# Altium schematic symbol library kmilo17pet-LT_OpAmp_LT1000.SchLib: 2280 symbols (part 44 of 79)
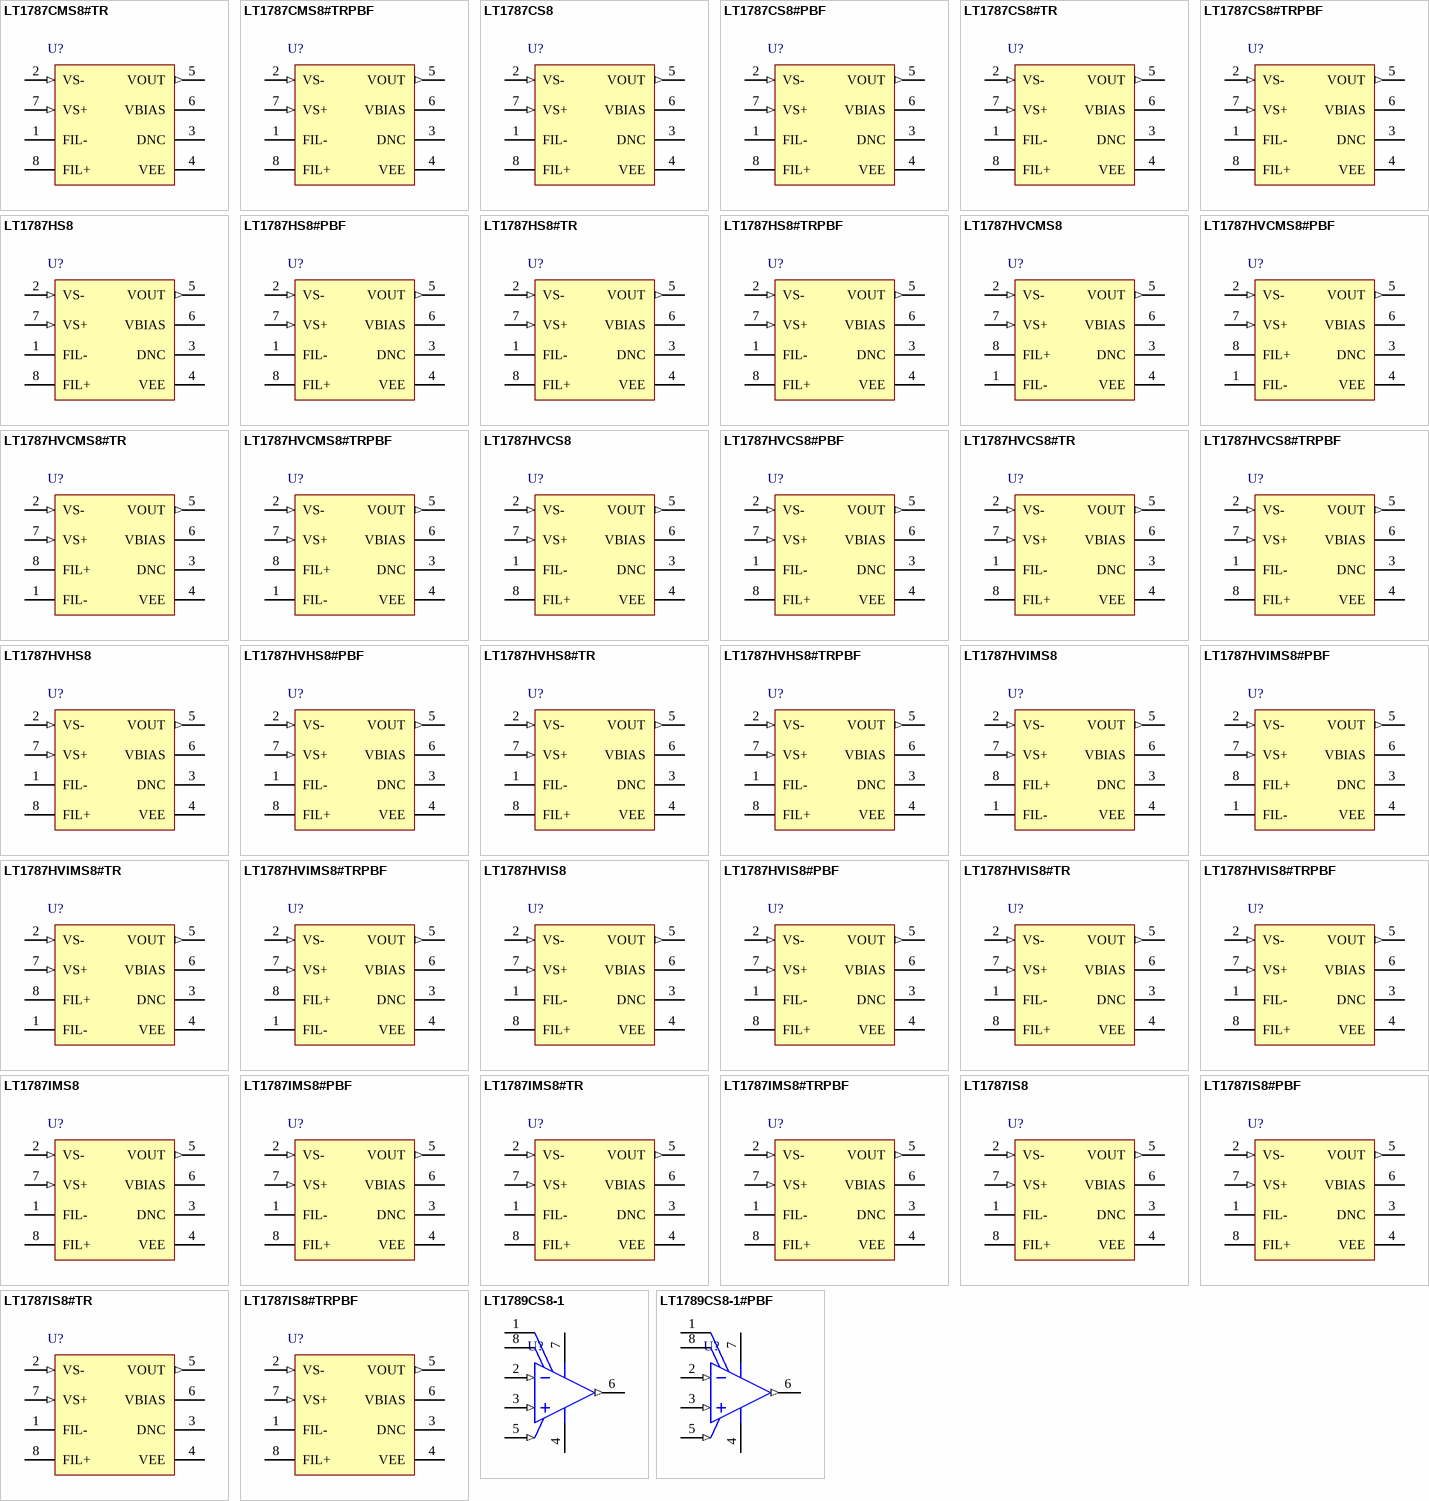
[diagram p148: symbols LT1787CMS8#TR to LT1789CS8-1#PBF]

## LT1787HVCMS8
designator U?
Single Channel, High Side Current Sense, 60 V Supply Operation, Precision Operational Amplifier, 0.115 MHz Typical GBW, 2.5 to 60 V, 8-Pin SOP (MS8-8), Commercial; Linear Technology Part Number: LT1787HV; Manufacturer: Linear Technology; PartNumber: LT1787HVCMS8; Channels (#): 1; GBW (MHz) Typical: 0.115; Is (mA) Typical: 0.06; Vos (mV) Guaranteed: 0.075; Vos (mV) Typical: 0.04; Vs Max (V): 60; Vs Min (V): 2.5; DatasheetVersion: Rev. C; PackageVersion: Rev G; PackageReference: LT-MS8-8; PackageDescription: 8-Lead Plastic Small Outline, Body 3.9 x 4.9 mm, Pitch 1.27 mm; Supplier 1: Digi-Key; Supplier Part Number 1: LT1787HVCMS8-ND; Type: CSA; Mounting Technology: Surface Mount; ComponentLink1Description: Manufacturer URL; ComponentLink1URL: http://www.linear.com/; ComponentLink2Description: Datasheet; ComponentLink2URL: http://cds.linear.com/docs/en/datasheet/1787fc.pdf; ComponentLink3Description: Package Specification; ComponentLink3URL: http://cds.linear.com/docs/en/packaging/05081610_G_SO8.pdf
footprint LT-MS8-8_N (SOP, 8-Leads, Body 3x3mm, Pitch 0.65mm, IPC Medium Density)
footprint LT-MS8-8_L (SOP, 8-Leads, Body 3x3mm, Pitch 0.65mm, IPC High Density)
footprint LT-MS8-8_M (SOP, 8-Leads, Body 3x3mm, Pitch 0.65mm, IPC Low Density)
pins: 1 FIL- "Negative and Positive Filter Terminals. Differential mode noise can be filtered by connecting a capacitor across FIL- and FIL+. Pole frequency f_3dB = 1/(2pRC), R = 1.25k ohm.", 2 VS- (in) "Negative Input Sense Terminal. Negative sense voltage will result in an output sinking current proportional to the sense current. VS- is connected to an internal gain-setting resistor RG1A and supplies bias current to the (See Datasheet)", 3 DNC "Do Not Connect. Connected internally. Do not connect external circuitry to this pin.", 4 VEE (power) "Negative Supply or Ground for Single Supply Operation.", 5 VOUT (out) "Voltage Output or Current Output proportional to the magnitude of the sense current flowing through RSENSE. For bidirectional current sensing operation, VOUT = AV * VSENSE + VOUT(O) + VBIAS,where: VOUT > VBIAS for VS + > VS- (See Datasheet)", 6 VBIAS "Output Bias Pin. For single supply, bidirectional current sensing operation, VBIAS is connected to an external bias voltage, so that at VSENSE = 0V, VOUT = VOUT(O) + VBIAS. For dual supply, bidirectional current sensing (See Datasheet)", 7 VS+ (in) "Positive Input Sense Terminal. Positive sense voltage will result in an output sourcing current proportional to the sense current. VS + is connected to an internal gain-setting resistor RG2A. Connecting a supply to VS + and (See Datasheet)", 8 FIL+ "Negative and Positive Filter Terminals. Differential mode noise can be filtered by connecting a capacitor across FIL- and FIL+. Pole frequency f_3dB = 1/(2pRC), R = 1.25k ohm."

## LT1787HVCMS8#PBF
designator U?
Single Channel, High Side Current Sense, 60 V Supply Operation, Precision Operational Amplifier, 0.115 MHz Typical GBW, 2.5 to 60 V, 8-Pin SOP (MS8-8), Commercial, Pb-Free; Linear Technology Part Number: LT1787HV; Manufacturer: Linear Technology; PartNumber: LT1787HVCMS8#PBF; Channels (#): 1; GBW (MHz) Typical: 0.115; Is (mA) Typical: 0.06; Vos (mV) Guaranteed: 0.075; Vos (mV) Typical: 0.04; Vs Max (V): 60; Vs Min (V): 2.5; DatasheetVersion: Rev. C; PackageVersion: Rev G; PackageReference: LT-MS8-8; PackageDescription: 8-Lead Plastic Small Outline, Body 3.9 x 4.9 mm, Pitch 1.27 mm; Supplier 1: Digi-Key; Supplier Part Number 1: LT1787HVCMS8#PBF-ND; Supplier 2: Farnell; Supplier Part Number 2: 1330697; Supplier 3: Newark; Supplier Part Number 3: 57M6443; RoHS: Pb-Free; Type: CSA; Mounting Technology: Surface Mount; ComponentLink1Description: Manufacturer URL; ComponentLink1URL: http://www.linear.com/; ComponentLink2Description: Datasheet; ComponentLink2URL: http://cds.linear.com/docs/en/datasheet/1787fc.pdf; ComponentLink3Description: Package Specification; ComponentLink3URL: http://cds.linear.com/docs/en/packaging/05081610_G_SO8.pdf
footprint LT-MS8-8_N (SOP, 8-Leads, Body 3x3mm, Pitch 0.65mm, IPC Medium Density)
footprint LT-MS8-8_L (SOP, 8-Leads, Body 3x3mm, Pitch 0.65mm, IPC High Density)
footprint LT-MS8-8_M (SOP, 8-Leads, Body 3x3mm, Pitch 0.65mm, IPC Low Density)
pins: 1 FIL- "Negative and Positive Filter Terminals. Differential mode noise can be filtered by connecting a capacitor across FIL- and FIL+. Pole frequency f_3dB = 1/(2pRC), R = 1.25k ohm.", 2 VS- (in) "Negative Input Sense Terminal. Negative sense voltage will result in an output sinking current proportional to the sense current. VS- is connected to an internal gain-setting resistor RG1A and supplies bias current to the (See Datasheet)", 3 DNC "Do Not Connect. Connected internally. Do not connect external circuitry to this pin.", 4 VEE (power) "Negative Supply or Ground for Single Supply Operation.", 5 VOUT (out) "Voltage Output or Current Output proportional to the magnitude of the sense current flowing through RSENSE. For bidirectional current sensing operation, VOUT = AV * VSENSE + VOUT(O) + VBIAS,where: VOUT > VBIAS for VS + > VS- (See Datasheet)", 6 VBIAS "Output Bias Pin. For single supply, bidirectional current sensing operation, VBIAS is connected to an external bias voltage, so that at VSENSE = 0V, VOUT = VOUT(O) + VBIAS. For dual supply, bidirectional current sensing (See Datasheet)", 7 VS+ (in) "Positive Input Sense Terminal. Positive sense voltage will result in an output sourcing current proportional to the sense current. VS + is connected to an internal gain-setting resistor RG2A. Connecting a supply to VS + and (See Datasheet)", 8 FIL+ "Negative and Positive Filter Terminals. Differential mode noise can be filtered by connecting a capacitor across FIL- and FIL+. Pole frequency f_3dB = 1/(2pRC), R = 1.25k ohm."

## LT1787HVCMS8#TR
designator U?
Single Channel, High Side Current Sense, 60 V Supply Operation, Precision Operational Amplifier, 0.115 MHz Typical GBW, 2.5 to 60 V, 8-Pin SOP (MS8-8), Commercial, Reel; Linear Technology Part Number: LT1787HV; Manufacturer: Linear Technology; PartNumber: LT1787HVCMS8#TR; Channels (#): 1; GBW (MHz) Typical: 0.115; Is (mA) Typical: 0.06; Vos (mV) Guaranteed: 0.075; Vos (mV) Typical: 0.04; Vs Max (V): 60; Vs Min (V): 2.5; DatasheetVersion: Rev. C; PackageVersion: Rev G; PackageReference: LT-MS8-8; PackageDescription: 8-Lead Plastic Small Outline, Body 3.9 x 4.9 mm, Pitch 1.27 mm; Supplier 1: Digi-Key; Supplier Part Number 1: LT1787HVCMS8#TR-ND; Packing: Reel; Type: CSA; Mounting Technology: Surface Mount; ComponentLink1Description: Manufacturer URL; ComponentLink1URL: http://www.linear.com/; ComponentLink2Description: Datasheet; ComponentLink2URL: http://cds.linear.com/docs/en/datasheet/1787fc.pdf; ComponentLink3Description: Package Specification; ComponentLink3URL: http://cds.linear.com/docs/en/packaging/05081610_G_SO8.pdf
footprint LT-MS8-8_N (SOP, 8-Leads, Body 3x3mm, Pitch 0.65mm, IPC Medium Density)
footprint LT-MS8-8_L (SOP, 8-Leads, Body 3x3mm, Pitch 0.65mm, IPC High Density)
footprint LT-MS8-8_M (SOP, 8-Leads, Body 3x3mm, Pitch 0.65mm, IPC Low Density)
pins: 1 FIL- "Negative and Positive Filter Terminals. Differential mode noise can be filtered by connecting a capacitor across FIL- and FIL+. Pole frequency f_3dB = 1/(2pRC), R = 1.25k ohm.", 2 VS- (in) "Negative Input Sense Terminal. Negative sense voltage will result in an output sinking current proportional to the sense current. VS- is connected to an internal gain-setting resistor RG1A and supplies bias current to the (See Datasheet)", 3 DNC "Do Not Connect. Connected internally. Do not connect external circuitry to this pin.", 4 VEE (power) "Negative Supply or Ground for Single Supply Operation.", 5 VOUT (out) "Voltage Output or Current Output proportional to the magnitude of the sense current flowing through RSENSE. For bidirectional current sensing operation, VOUT = AV * VSENSE + VOUT(O) + VBIAS,where: VOUT > VBIAS for VS + > VS- (See Datasheet)", 6 VBIAS "Output Bias Pin. For single supply, bidirectional current sensing operation, VBIAS is connected to an external bias voltage, so that at VSENSE = 0V, VOUT = VOUT(O) + VBIAS. For dual supply, bidirectional current sensing (See Datasheet)", 7 VS+ (in) "Positive Input Sense Terminal. Positive sense voltage will result in an output sourcing current proportional to the sense current. VS + is connected to an internal gain-setting resistor RG2A. Connecting a supply to VS + and (See Datasheet)", 8 FIL+ "Negative and Positive Filter Terminals. Differential mode noise can be filtered by connecting a capacitor across FIL- and FIL+. Pole frequency f_3dB = 1/(2pRC), R = 1.25k ohm."

## LT1787HVCMS8#TRPBF
designator U?
Single Channel, High Side Current Sense, 60 V Supply Operation, Precision Operational Amplifier, 0.115 MHz Typical GBW, 2.5 to 60 V, 8-Pin SOP (MS8-8), Commercial, Pb-Free, Reel; Linear Technology Part Number: LT1787HV; Manufacturer: Linear Technology; PartNumber: LT1787HVCMS8#TRPBF; Channels (#): 1; GBW (MHz) Typical: 0.115; Is (mA) Typical: 0.06; Vos (mV) Guaranteed: 0.075; Vos (mV) Typical: 0.04; Vs Max (V): 60; Vs Min (V): 2.5; DatasheetVersion: Rev. C; PackageVersion: Rev G; PackageReference: LT-MS8-8; PackageDescription: 8-Lead Plastic Small Outline, Body 3.9 x 4.9 mm, Pitch 1.27 mm; Supplier 1: Digi-Key; Supplier Part Number 1: LT1787HVCMS8#TRPBF-ND; Packing: Reel; RoHS: Pb-Free; Type: CSA; Mounting Technology: Surface Mount; ComponentLink1Description: Manufacturer URL; ComponentLink1URL: http://www.linear.com/; ComponentLink2Description: Datasheet; ComponentLink2URL: http://cds.linear.com/docs/en/datasheet/1787fc.pdf; ComponentLink3Description: Package Specification; ComponentLink3URL: http://cds.linear.com/docs/en/packaging/05081610_G_SO8.pdf
footprint LT-MS8-8_N (SOP, 8-Leads, Body 3x3mm, Pitch 0.65mm, IPC Medium Density)
footprint LT-MS8-8_L (SOP, 8-Leads, Body 3x3mm, Pitch 0.65mm, IPC High Density)
footprint LT-MS8-8_M (SOP, 8-Leads, Body 3x3mm, Pitch 0.65mm, IPC Low Density)
pins: 1 FIL- "Negative and Positive Filter Terminals. Differential mode noise can be filtered by connecting a capacitor across FIL- and FIL+. Pole frequency f_3dB = 1/(2pRC), R = 1.25k ohm.", 2 VS- (in) "Negative Input Sense Terminal. Negative sense voltage will result in an output sinking current proportional to the sense current. VS- is connected to an internal gain-setting resistor RG1A and supplies bias current to the (See Datasheet)", 3 DNC "Do Not Connect. Connected internally. Do not connect external circuitry to this pin.", 4 VEE (power) "Negative Supply or Ground for Single Supply Operation.", 5 VOUT (out) "Voltage Output or Current Output proportional to the magnitude of the sense current flowing through RSENSE. For bidirectional current sensing operation, VOUT = AV * VSENSE + VOUT(O) + VBIAS,where: VOUT > VBIAS for VS + > VS- (See Datasheet)", 6 VBIAS "Output Bias Pin. For single supply, bidirectional current sensing operation, VBIAS is connected to an external bias voltage, so that at VSENSE = 0V, VOUT = VOUT(O) + VBIAS. For dual supply, bidirectional current sensing (See Datasheet)", 7 VS+ (in) "Positive Input Sense Terminal. Positive sense voltage will result in an output sourcing current proportional to the sense current. VS + is connected to an internal gain-setting resistor RG2A. Connecting a supply to VS + and (See Datasheet)", 8 FIL+ "Negative and Positive Filter Terminals. Differential mode noise can be filtered by connecting a capacitor across FIL- and FIL+. Pole frequency f_3dB = 1/(2pRC), R = 1.25k ohm."

## LT1787HVCS8
designator U?
Single Channel, High Side Current Sense, 60 V Supply Operation, Precision Operational Amplifier, 0.115 MHz Typical GBW, 2.5 to 60 V, 8-Pin SOIC (S8-8), Commercial; Linear Technology Part Number: LT1787HV; Manufacturer: Linear Technology; PartNumber: LT1787HVCS8; Channels (#): 1; GBW (MHz) Typical: 0.115; Is (mA) Typical: 0.06; Vos (mV) Guaranteed: 0.075; Vos (mV) Typical: 0.04; Vs Max (V): 60; Vs Min (V): 2.5; DatasheetVersion: Rev. C; PackageVersion: Rev G; PackageReference: LT-S8-8; PackageDescription: 8-Pin Plastic Small Outline, Body 4.9 x 3.9 mm, Pitch 1.27 mm; Supplier 1: Digi-Key; Supplier Part Number 1: LT1787HVCS8-ND; Supplier 2: Newark; Supplier Part Number 2: 57M6446; Type: CSA; Mounting Technology: Surface Mount; ComponentLink1Description: Manufacturer URL; ComponentLink1URL: http://www.linear.com/; ComponentLink2Description: Datasheet; ComponentLink2URL: http://cds.linear.com/docs/en/datasheet/1787fc.pdf; ComponentLink3Description: Package Specification; ComponentLink3URL: http://cds.linear.com/docs/en/packaging/05081610_G_SO8.pdf
footprint LT-S8-8_N (SOIC, 8-Leads, Body 4.9x3.9mm, Pitch 1.27mm, IPC Medium Density)
footprint LT-S8-8_L (SOIC, 8-Leads, Body 4.9x3.9mm, Pitch 1.27mm, IPC High Density)
footprint LT-S8-8_M (SOIC, 8-Leads, Body 4.9x3.9mm, Pitch 1.27mm, IPC Low Density)
pins: 1 FIL- "Negative and Positive Filter Terminal. Differential mode noise can be filtered by connecting a capacitor across FIL- and FIL+. Pole frequency f-3dB = 1/(2pRC), R = 1.25k ohm.", 2 VS- (in) "Negative Input Sense Terminal. Negative sense voltage will result in an output sinking current proportional to the sense current. VS- is connected to an internal gain-setting resistor RG1A and supplies bias current to the (See Datasheet)", 3 DNC "Do Not Connect. Connected internally. Do not connect external circuitry to this pin.", 4 VEE (power) "Negative Supply or Ground for Single Supply Operation.", 5 VOUT (out) "Voltage Output or Current Output proportional to the magnitude of the sense current flowing through RSENSE. For bidirectional current sensing operation, VOUT = AV • VSENSE + VOUT(O) + VBIAS,where: VOUT > VBIAS for VS + > VS (See Datasheet)", 6 VBIAS "Output Bias Pin. For single supply, bidirectional current sensing operation, VBIAS is connected to an external bias voltage, so that at VSENSE = 0V, VOUT = VOUT(O) + VBIAS. For dual supply, bidirectional current sensing (See Datasheet)", 7 VS+ (in) "Positive Input Sense Terminal. Positive sense voltage will result in an output sourcing current proportional to the sense current. VS + is connected to an internal gain-setting resistor RG2A. Connecting a supply to VS + and (See Datasheet)", 8 FIL+ "Negative and Positive Filter Terminal. Differential mode noise can be filtered by connecting a capacitor across FIL- and FIL+. Pole frequency f-3dB = 1/(2pRC), R = 1.25k ohm."

## LT1787HVCS8#PBF
designator U?
Single Channel, High Side Current Sense, 60 V Supply Operation, Precision Operational Amplifier, 0.115 MHz Typical GBW, 2.5 to 60 V, 8-Pin SOIC (S8-8), Commercial, Pb-Free; Linear Technology Part Number: LT1787HV; Manufacturer: Linear Technology; PartNumber: LT1787HVCS8#PBF; Channels (#): 1; GBW (MHz) Typical: 0.115; Is (mA) Typical: 0.06; Vos (mV) Guaranteed: 0.075; Vos (mV) Typical: 0.04; Vs Max (V): 60; Vs Min (V): 2.5; DatasheetVersion: Rev. C; PackageVersion: Rev G; PackageReference: LT-S8-8; PackageDescription: 8-Pin Plastic Small Outline, Body 4.9 x 3.9 mm, Pitch 1.27 mm; Supplier 1: Digi-Key; Supplier Part Number 1: LT1787HVCS8#PBF-ND; Supplier 2: Farnell; Supplier Part Number 2: 1663502; Supplier 3: Newark; Supplier Part Number 3: 57M6447; RoHS: Pb-Free; Type: CSA; Mounting Technology: Surface Mount; ComponentLink1Description: Manufacturer URL; ComponentLink1URL: http://www.linear.com/; ComponentLink2Description: Datasheet; ComponentLink2URL: http://cds.linear.com/docs/en/datasheet/1787fc.pdf; ComponentLink3Description: Package Specification; ComponentLink3URL: http://cds.linear.com/docs/en/packaging/05081610_G_SO8.pdf
footprint LT-S8-8_N (SOIC, 8-Leads, Body 4.9x3.9mm, Pitch 1.27mm, IPC Medium Density)
footprint LT-S8-8_L (SOIC, 8-Leads, Body 4.9x3.9mm, Pitch 1.27mm, IPC High Density)
footprint LT-S8-8_M (SOIC, 8-Leads, Body 4.9x3.9mm, Pitch 1.27mm, IPC Low Density)
pins: 1 FIL- "Negative and Positive Filter Terminal. Differential mode noise can be filtered by connecting a capacitor across FIL- and FIL+. Pole frequency f-3dB = 1/(2pRC), R = 1.25k ohm.", 2 VS- (in) "Negative Input Sense Terminal. Negative sense voltage will result in an output sinking current proportional to the sense current. VS- is connected to an internal gain-setting resistor RG1A and supplies bias current to the (See Datasheet)", 3 DNC "Do Not Connect. Connected internally. Do not connect external circuitry to this pin.", 4 VEE (power) "Negative Supply or Ground for Single Supply Operation.", 5 VOUT (out) "Voltage Output or Current Output proportional to the magnitude of the sense current flowing through RSENSE. For bidirectional current sensing operation, VOUT = AV • VSENSE + VOUT(O) + VBIAS,where: VOUT > VBIAS for VS + > VS (See Datasheet)", 6 VBIAS "Output Bias Pin. For single supply, bidirectional current sensing operation, VBIAS is connected to an external bias voltage, so that at VSENSE = 0V, VOUT = VOUT(O) + VBIAS. For dual supply, bidirectional current sensing (See Datasheet)", 7 VS+ (in) "Positive Input Sense Terminal. Positive sense voltage will result in an output sourcing current proportional to the sense current. VS + is connected to an internal gain-setting resistor RG2A. Connecting a supply to VS + and (See Datasheet)", 8 FIL+ "Negative and Positive Filter Terminal. Differential mode noise can be filtered by connecting a capacitor across FIL- and FIL+. Pole frequency f-3dB = 1/(2pRC), R = 1.25k ohm."

## LT1787HVCS8#TR
designator U?
Single Channel, High Side Current Sense, 60 V Supply Operation, Precision Operational Amplifier, 0.115 MHz Typical GBW, 2.5 to 60 V, 8-Pin SOIC (S8-8), Commercial, Reel; Linear Technology Part Number: LT1787HV; Manufacturer: Linear Technology; PartNumber: LT1787HVCS8#TR; Channels (#): 1; GBW (MHz) Typical: 0.115; Is (mA) Typical: 0.06; Vos (mV) Guaranteed: 0.075; Vos (mV) Typical: 0.04; Vs Max (V): 60; Vs Min (V): 2.5; DatasheetVersion: Rev. C; PackageVersion: Rev G; PackageReference: LT-S8-8; PackageDescription: 8-Pin Plastic Small Outline, Body 4.9 x 3.9 mm, Pitch 1.27 mm; Supplier 1: Digi-Key; Supplier Part Number 1: LT1787HVCS8#TR-ND; Packing: Reel; Type: CSA; Mounting Technology: Surface Mount; ComponentLink1Description: Manufacturer URL; ComponentLink1URL: http://www.linear.com/; ComponentLink2Description: Datasheet; ComponentLink2URL: http://cds.linear.com/docs/en/datasheet/1787fc.pdf; ComponentLink3Description: Package Specification; ComponentLink3URL: http://cds.linear.com/docs/en/packaging/05081610_G_SO8.pdf
footprint LT-S8-8_N (SOIC, 8-Leads, Body 4.9x3.9mm, Pitch 1.27mm, IPC Medium Density)
footprint LT-S8-8_L (SOIC, 8-Leads, Body 4.9x3.9mm, Pitch 1.27mm, IPC High Density)
footprint LT-S8-8_M (SOIC, 8-Leads, Body 4.9x3.9mm, Pitch 1.27mm, IPC Low Density)
pins: 1 FIL- "Negative and Positive Filter Terminal. Differential mode noise can be filtered by connecting a capacitor across FIL- and FIL+. Pole frequency f-3dB = 1/(2pRC), R = 1.25k ohm.", 2 VS- (in) "Negative Input Sense Terminal. Negative sense voltage will result in an output sinking current proportional to the sense current. VS- is connected to an internal gain-setting resistor RG1A and supplies bias current to the (See Datasheet)", 3 DNC "Do Not Connect. Connected internally. Do not connect external circuitry to this pin.", 4 VEE (power) "Negative Supply or Ground for Single Supply Operation.", 5 VOUT (out) "Voltage Output or Current Output proportional to the magnitude of the sense current flowing through RSENSE. For bidirectional current sensing operation, VOUT = AV • VSENSE + VOUT(O) + VBIAS,where: VOUT > VBIAS for VS + > VS (See Datasheet)", 6 VBIAS "Output Bias Pin. For single supply, bidirectional current sensing operation, VBIAS is connected to an external bias voltage, so that at VSENSE = 0V, VOUT = VOUT(O) + VBIAS. For dual supply, bidirectional current sensing (See Datasheet)", 7 VS+ (in) "Positive Input Sense Terminal. Positive sense voltage will result in an output sourcing current proportional to the sense current. VS + is connected to an internal gain-setting resistor RG2A. Connecting a supply to VS + and (See Datasheet)", 8 FIL+ "Negative and Positive Filter Terminal. Differential mode noise can be filtered by connecting a capacitor across FIL- and FIL+. Pole frequency f-3dB = 1/(2pRC), R = 1.25k ohm."

## LT1787HVCS8#TRPBF
designator U?
Single Channel, High Side Current Sense, 60 V Supply Operation, Precision Operational Amplifier, 0.115 MHz Typical GBW, 2.5 to 60 V, 8-Pin SOIC (S8-8), Commercial, Pb-Free, Reel; Linear Technology Part Number: LT1787HV; Manufacturer: Linear Technology; PartNumber: LT1787HVCS8#TRPBF; Channels (#): 1; GBW (MHz) Typical: 0.115; Is (mA) Typical: 0.06; Vos (mV) Guaranteed: 0.075; Vos (mV) Typical: 0.04; Vs Max (V): 60; Vs Min (V): 2.5; DatasheetVersion: Rev. C; PackageVersion: Rev G; PackageReference: LT-S8-8; PackageDescription: 8-Pin Plastic Small Outline, Body 4.9 x 3.9 mm, Pitch 1.27 mm; Supplier 1: Digi-Key; Supplier Part Number 1: LT1787HVCS8#TRPBF-ND; Supplier 2: Newark; Supplier Part Number 2: 57M6449; Packing: Reel; RoHS: Pb-Free; Type: CSA; Mounting Technology: Surface Mount; ComponentLink1Description: Manufacturer URL; ComponentLink1URL: http://www.linear.com/; ComponentLink2Description: Datasheet; ComponentLink2URL: http://cds.linear.com/docs/en/datasheet/1787fc.pdf; ComponentLink3Description: Package Specification; ComponentLink3URL: http://cds.linear.com/docs/en/packaging/05081610_G_SO8.pdf
footprint LT-S8-8_N (SOIC, 8-Leads, Body 4.9x3.9mm, Pitch 1.27mm, IPC Medium Density)
footprint LT-S8-8_L (SOIC, 8-Leads, Body 4.9x3.9mm, Pitch 1.27mm, IPC High Density)
footprint LT-S8-8_M (SOIC, 8-Leads, Body 4.9x3.9mm, Pitch 1.27mm, IPC Low Density)
pins: 1 FIL- "Negative and Positive Filter Terminal. Differential mode noise can be filtered by connecting a capacitor across FIL- and FIL+. Pole frequency f-3dB = 1/(2pRC), R = 1.25k ohm.", 2 VS- (in) "Negative Input Sense Terminal. Negative sense voltage will result in an output sinking current proportional to the sense current. VS- is connected to an internal gain-setting resistor RG1A and supplies bias current to the (See Datasheet)", 3 DNC "Do Not Connect. Connected internally. Do not connect external circuitry to this pin.", 4 VEE (power) "Negative Supply or Ground for Single Supply Operation.", 5 VOUT (out) "Voltage Output or Current Output proportional to the magnitude of the sense current flowing through RSENSE. For bidirectional current sensing operation, VOUT = AV • VSENSE + VOUT(O) + VBIAS,where: VOUT > VBIAS for VS + > VS (See Datasheet)", 6 VBIAS "Output Bias Pin. For single supply, bidirectional current sensing operation, VBIAS is connected to an external bias voltage, so that at VSENSE = 0V, VOUT = VOUT(O) + VBIAS. For dual supply, bidirectional current sensing (See Datasheet)", 7 VS+ (in) "Positive Input Sense Terminal. Positive sense voltage will result in an output sourcing current proportional to the sense current. VS + is connected to an internal gain-setting resistor RG2A. Connecting a supply to VS + and (See Datasheet)", 8 FIL+ "Negative and Positive Filter Terminal. Differential mode noise can be filtered by connecting a capacitor across FIL- and FIL+. Pole frequency f-3dB = 1/(2pRC), R = 1.25k ohm."

## LT1787HVHS8
designator U?
Single Channel, High Side Current Sense, 60 V Supply Operation, Precision Operational Amplifier, 0.115 MHz Typical GBW, 2.5 to 60 V, 8-Pin SOIC (S8-8), High Temperature / Automotive; Linear Technology Part Number: LT1787HV; Manufacturer: Linear Technology; PartNumber: LT1787HVHS8; Channels (#): 1; GBW (MHz) Typical: 0.115; Is (mA) Typical: 0.06; Vos (mV) Guaranteed: 0.075; Vos (mV) Typical: 0.04; Vs Max (V): 60; Vs Min (V): 2.5; DatasheetVersion: Rev. C; PackageVersion: Rev G; PackageReference: LT-S8-8; PackageDescription: 8-Pin Plastic Small Outline, Body 4.9 x 3.9 mm, Pitch 1.27 mm; Supplier 1: Digi-Key; Supplier Part Number 1: LT1787HVHS8-ND; Type: CSA; Mounting Technology: Surface Mount; ComponentLink1Description: Manufacturer URL; ComponentLink1URL: http://www.linear.com/; ComponentLink2Description: Datasheet; ComponentLink2URL: http://cds.linear.com/docs/en/datasheet/1787fc.pdf; ComponentLink3Description: Package Specification; ComponentLink3URL: http://cds.linear.com/docs/en/packaging/05081610_G_SO8.pdf
footprint LT-S8-8_N (SOIC, 8-Leads, Body 4.9x3.9mm, Pitch 1.27mm, IPC Medium Density)
footprint LT-S8-8_L (SOIC, 8-Leads, Body 4.9x3.9mm, Pitch 1.27mm, IPC High Density)
footprint LT-S8-8_M (SOIC, 8-Leads, Body 4.9x3.9mm, Pitch 1.27mm, IPC Low Density)
pins: 1 FIL- "Negative and Positive Filter Terminal. Differential mode noise can be filtered by connecting a capacitor across FIL- and FIL+. Pole frequency f-3dB = 1/(2pRC), R = 1.25k ohm.", 2 VS- (in) "Negative Input Sense Terminal. Negative sense voltage will result in an output sinking current proportional to the sense current. VS- is connected to an internal gain-setting resistor RG1A and supplies bias current to the (See Datasheet)", 3 DNC "Do Not Connect. Connected internally. Do not connect external circuitry to this pin.", 4 VEE (power) "Negative Supply or Ground for Single Supply Operation.", 5 VOUT (out) "Voltage Output or Current Output proportional to the magnitude of the sense current flowing through RSENSE. For bidirectional current sensing operation, VOUT = AV • VSENSE + VOUT(O) + VBIAS,where: VOUT > VBIAS for VS + > VS (See Datasheet)", 6 VBIAS "Output Bias Pin. For single supply, bidirectional current sensing operation, VBIAS is connected to an external bias voltage, so that at VSENSE = 0V, VOUT = VOUT(O) + VBIAS. For dual supply, bidirectional current sensing (See Datasheet)", 7 VS+ (in) "Positive Input Sense Terminal. Positive sense voltage will result in an output sourcing current proportional to the sense current. VS + is connected to an internal gain-setting resistor RG2A. Connecting a supply to VS + and (See Datasheet)", 8 FIL+ "Negative and Positive Filter Terminal. Differential mode noise can be filtered by connecting a capacitor across FIL- and FIL+. Pole frequency f-3dB = 1/(2pRC), R = 1.25k ohm."

## LT1787HVHS8#PBF
designator U?
Single Channel, High Side Current Sense, 60 V Supply Operation, Precision Operational Amplifier, 0.115 MHz Typical GBW, 2.5 to 60 V, 8-Pin SOIC (S8-8), High Temperature / Automotive, Pb-Free; Linear Technology Part Number: LT1787HV; Manufacturer: Linear Technology; PartNumber: LT1787HVHS8#PBF; Channels (#): 1; GBW (MHz) Typical: 0.115; Is (mA) Typical: 0.06; Vos (mV) Guaranteed: 0.075; Vos (mV) Typical: 0.04; Vs Max (V): 60; Vs Min (V): 2.5; DatasheetVersion: Rev. C; PackageVersion: Rev G; PackageReference: LT-S8-8; PackageDescription: 8-Pin Plastic Small Outline, Body 4.9 x 3.9 mm, Pitch 1.27 mm; Supplier 1: Digi-Key; Supplier Part Number 1: LT1787HVHS8#PBF-ND; Supplier 2: Newark; Supplier Part Number 2: 57M6451; RoHS: Pb-Free; Type: CSA; Mounting Technology: Surface Mount; ComponentLink1Description: Manufacturer URL; ComponentLink1URL: http://www.linear.com/; ComponentLink2Description: Datasheet; ComponentLink2URL: http://cds.linear.com/docs/en/datasheet/1787fc.pdf; ComponentLink3Description: Package Specification; ComponentLink3URL: http://cds.linear.com/docs/en/packaging/05081610_G_SO8.pdf
footprint LT-S8-8_N (SOIC, 8-Leads, Body 4.9x3.9mm, Pitch 1.27mm, IPC Medium Density)
footprint LT-S8-8_L (SOIC, 8-Leads, Body 4.9x3.9mm, Pitch 1.27mm, IPC High Density)
footprint LT-S8-8_M (SOIC, 8-Leads, Body 4.9x3.9mm, Pitch 1.27mm, IPC Low Density)
pins: 1 FIL- "Negative and Positive Filter Terminal. Differential mode noise can be filtered by connecting a capacitor across FIL- and FIL+. Pole frequency f-3dB = 1/(2pRC), R = 1.25k ohm.", 2 VS- (in) "Negative Input Sense Terminal. Negative sense voltage will result in an output sinking current proportional to the sense current. VS- is connected to an internal gain-setting resistor RG1A and supplies bias current to the (See Datasheet)", 3 DNC "Do Not Connect. Connected internally. Do not connect external circuitry to this pin.", 4 VEE (power) "Negative Supply or Ground for Single Supply Operation.", 5 VOUT (out) "Voltage Output or Current Output proportional to the magnitude of the sense current flowing through RSENSE. For bidirectional current sensing operation, VOUT = AV • VSENSE + VOUT(O) + VBIAS,where: VOUT > VBIAS for VS + > VS (See Datasheet)", 6 VBIAS "Output Bias Pin. For single supply, bidirectional current sensing operation, VBIAS is connected to an external bias voltage, so that at VSENSE = 0V, VOUT = VOUT(O) + VBIAS. For dual supply, bidirectional current sensing (See Datasheet)", 7 VS+ (in) "Positive Input Sense Terminal. Positive sense voltage will result in an output sourcing current proportional to the sense current. VS + is connected to an internal gain-setting resistor RG2A. Connecting a supply to VS + and (See Datasheet)", 8 FIL+ "Negative and Positive Filter Terminal. Differential mode noise can be filtered by connecting a capacitor across FIL- and FIL+. Pole frequency f-3dB = 1/(2pRC), R = 1.25k ohm."

## LT1787HVHS8#TR
designator U?
Single Channel, High Side Current Sense, 60 V Supply Operation, Precision Operational Amplifier, 0.115 MHz Typical GBW, 2.5 to 60 V, 8-Pin SOIC (S8-8), High Temperature / Automotive, Reel; Linear Technology Part Number: LT1787HV; Manufacturer: Linear Technology; PartNumber: LT1787HVHS8#TR; Channels (#): 1; GBW (MHz) Typical: 0.115; Is (mA) Typical: 0.06; Vos (mV) Guaranteed: 0.075; Vos (mV) Typical: 0.04; Vs Max (V): 60; Vs Min (V): 2.5; DatasheetVersion: Rev. C; PackageVersion: Rev G; PackageReference: LT-S8-8; PackageDescription: 8-Pin Plastic Small Outline, Body 4.9 x 3.9 mm, Pitch 1.27 mm; Supplier 1: Digi-Key; Supplier Part Number 1: LT1787HVHS8TR-ND; Packing: Reel; Type: CSA; Mounting Technology: Surface Mount; ComponentLink1Description: Manufacturer URL; ComponentLink1URL: http://www.linear.com/; ComponentLink2Description: Datasheet; ComponentLink2URL: http://cds.linear.com/docs/en/datasheet/1787fc.pdf; ComponentLink3Description: Package Specification; ComponentLink3URL: http://cds.linear.com/docs/en/packaging/05081610_G_SO8.pdf
footprint LT-S8-8_N (SOIC, 8-Leads, Body 4.9x3.9mm, Pitch 1.27mm, IPC Medium Density)
footprint LT-S8-8_L (SOIC, 8-Leads, Body 4.9x3.9mm, Pitch 1.27mm, IPC High Density)
footprint LT-S8-8_M (SOIC, 8-Leads, Body 4.9x3.9mm, Pitch 1.27mm, IPC Low Density)
pins: 1 FIL- "Negative and Positive Filter Terminal. Differential mode noise can be filtered by connecting a capacitor across FIL- and FIL+. Pole frequency f-3dB = 1/(2pRC), R = 1.25k ohm.", 2 VS- (in) "Negative Input Sense Terminal. Negative sense voltage will result in an output sinking current proportional to the sense current. VS- is connected to an internal gain-setting resistor RG1A and supplies bias current to the (See Datasheet)", 3 DNC "Do Not Connect. Connected internally. Do not connect external circuitry to this pin.", 4 VEE (power) "Negative Supply or Ground for Single Supply Operation.", 5 VOUT (out) "Voltage Output or Current Output proportional to the magnitude of the sense current flowing through RSENSE. For bidirectional current sensing operation, VOUT = AV • VSENSE + VOUT(O) + VBIAS,where: VOUT > VBIAS for VS + > VS (See Datasheet)", 6 VBIAS "Output Bias Pin. For single supply, bidirectional current sensing operation, VBIAS is connected to an external bias voltage, so that at VSENSE = 0V, VOUT = VOUT(O) + VBIAS. For dual supply, bidirectional current sensing (See Datasheet)", 7 VS+ (in) "Positive Input Sense Terminal. Positive sense voltage will result in an output sourcing current proportional to the sense current. VS + is connected to an internal gain-setting resistor RG2A. Connecting a supply to VS + and (See Datasheet)", 8 FIL+ "Negative and Positive Filter Terminal. Differential mode noise can be filtered by connecting a capacitor across FIL- and FIL+. Pole frequency f-3dB = 1/(2pRC), R = 1.25k ohm."

## LT1787HVHS8#TRPBF
designator U?
Single Channel, High Side Current Sense, 60 V Supply Operation, Precision Operational Amplifier, 0.115 MHz Typical GBW, 2.5 to 60 V, 8-Pin SOIC (S8-8), High Temperature / Automotive, Pb-Free, Reel; Linear Technology Part Number: LT1787HV; Manufacturer: Linear Technology; PartNumber: LT1787HVHS8#TRPBF; Channels (#): 1; GBW (MHz) Typical: 0.115; Is (mA) Typical: 0.06; Vos (mV) Guaranteed: 0.075; Vos (mV) Typical: 0.04; Vs Max (V): 60; Vs Min (V): 2.5; DatasheetVersion: Rev. C; PackageVersion: Rev G; PackageReference: LT-S8-8; PackageDescription: 8-Pin Plastic Small Outline, Body 4.9 x 3.9 mm, Pitch 1.27 mm; Supplier 1: Digi-Key; Supplier Part Number 1: LT1787HVHS8#TRPBF-ND; Packing: Reel; RoHS: Pb-Free; Type: CSA; Mounting Technology: Surface Mount; ComponentLink1Description: Manufacturer URL; ComponentLink1URL: http://www.linear.com/; ComponentLink2Description: Datasheet; ComponentLink2URL: http://cds.linear.com/docs/en/datasheet/1787fc.pdf; ComponentLink3Description: Package Specification; ComponentLink3URL: http://cds.linear.com/docs/en/packaging/05081610_G_SO8.pdf
footprint LT-S8-8_N (SOIC, 8-Leads, Body 4.9x3.9mm, Pitch 1.27mm, IPC Medium Density)
footprint LT-S8-8_L (SOIC, 8-Leads, Body 4.9x3.9mm, Pitch 1.27mm, IPC High Density)
footprint LT-S8-8_M (SOIC, 8-Leads, Body 4.9x3.9mm, Pitch 1.27mm, IPC Low Density)
pins: 1 FIL- "Negative and Positive Filter Terminal. Differential mode noise can be filtered by connecting a capacitor across FIL- and FIL+. Pole frequency f-3dB = 1/(2pRC), R = 1.25k ohm.", 2 VS- (in) "Negative Input Sense Terminal. Negative sense voltage will result in an output sinking current proportional to the sense current. VS- is connected to an internal gain-setting resistor RG1A and supplies bias current to the (See Datasheet)", 3 DNC "Do Not Connect. Connected internally. Do not connect external circuitry to this pin.", 4 VEE (power) "Negative Supply or Ground for Single Supply Operation.", 5 VOUT (out) "Voltage Output or Current Output proportional to the magnitude of the sense current flowing through RSENSE. For bidirectional current sensing operation, VOUT = AV • VSENSE + VOUT(O) + VBIAS,where: VOUT > VBIAS for VS + > VS (See Datasheet)", 6 VBIAS "Output Bias Pin. For single supply, bidirectional current sensing operation, VBIAS is connected to an external bias voltage, so that at VSENSE = 0V, VOUT = VOUT(O) + VBIAS. For dual supply, bidirectional current sensing (See Datasheet)", 7 VS+ (in) "Positive Input Sense Terminal. Positive sense voltage will result in an output sourcing current proportional to the sense current. VS + is connected to an internal gain-setting resistor RG2A. Connecting a supply to VS + and (See Datasheet)", 8 FIL+ "Negative and Positive Filter Terminal. Differential mode noise can be filtered by connecting a capacitor across FIL- and FIL+. Pole frequency f-3dB = 1/(2pRC), R = 1.25k ohm."

## LT1787HVIMS8
designator U?
Single Channel, High Side Current Sense, 60 V Supply Operation, Precision Operational Amplifier, 0.115 MHz Typical GBW, 2.5 to 60 V, 8-Pin SOP (MS8-8), Industrial; Linear Technology Part Number: LT1787HV; Manufacturer: Linear Technology; PartNumber: LT1787HVIMS8; Channels (#): 1; GBW (MHz) Typical: 0.115; Is (mA) Typical: 0.06; Vos (mV) Guaranteed: 0.075; Vos (mV) Typical: 0.04; Vs Max (V): 60; Vs Min (V): 2.5; DatasheetVersion: Rev. C; PackageVersion: Rev G; PackageReference: LT-MS8-8; PackageDescription: 8-Lead Plastic Small Outline, Body 3.9 x 4.9 mm, Pitch 1.27 mm; Supplier 1: Digi-Key; Supplier Part Number 1: LT1787HVIMS8-ND; Supplier 2: Newark; Supplier Part Number 2: 57M6454; Type: CSA; Mounting Technology: Surface Mount; ComponentLink1Description: Manufacturer URL; ComponentLink1URL: http://www.linear.com/; ComponentLink2Description: Datasheet; ComponentLink2URL: http://cds.linear.com/docs/en/datasheet/1787fc.pdf; ComponentLink3Description: Package Specification; ComponentLink3URL: http://cds.linear.com/docs/en/packaging/05081610_G_SO8.pdf
footprint LT-MS8-8_N (SOP, 8-Leads, Body 3x3mm, Pitch 0.65mm, IPC Medium Density)
footprint LT-MS8-8_L (SOP, 8-Leads, Body 3x3mm, Pitch 0.65mm, IPC High Density)
footprint LT-MS8-8_M (SOP, 8-Leads, Body 3x3mm, Pitch 0.65mm, IPC Low Density)
pins: 1 FIL- "Negative and Positive Filter Terminals. Differential mode noise can be filtered by connecting a capacitor across FIL- and FIL+. Pole frequency f_3dB = 1/(2pRC), R = 1.25k ohm.", 2 VS- (in) "Negative Input Sense Terminal. Negative sense voltage will result in an output sinking current proportional to the sense current. VS- is connected to an internal gain-setting resistor RG1A and supplies bias current to the (See Datasheet)", 3 DNC "Do Not Connect. Connected internally. Do not connect external circuitry to this pin.", 4 VEE (power) "Negative Supply or Ground for Single Supply Operation.", 5 VOUT (out) "Voltage Output or Current Output proportional to the magnitude of the sense current flowing through RSENSE. For bidirectional current sensing operation, VOUT = AV * VSENSE + VOUT(O) + VBIAS,where: VOUT > VBIAS for VS + > VS- (See Datasheet)", 6 VBIAS "Output Bias Pin. For single supply, bidirectional current sensing operation, VBIAS is connected to an external bias voltage, so that at VSENSE = 0V, VOUT = VOUT(O) + VBIAS. For dual supply, bidirectional current sensing (See Datasheet)", 7 VS+ (in) "Positive Input Sense Terminal. Positive sense voltage will result in an output sourcing current proportional to the sense current. VS + is connected to an internal gain-setting resistor RG2A. Connecting a supply to VS + and (See Datasheet)", 8 FIL+ "Negative and Positive Filter Terminals. Differential mode noise can be filtered by connecting a capacitor across FIL- and FIL+. Pole frequency f_3dB = 1/(2pRC), R = 1.25k ohm."

## LT1787HVIMS8#PBF
designator U?
Single Channel, High Side Current Sense, 60 V Supply Operation, Precision Operational Amplifier, 0.115 MHz Typical GBW, 2.5 to 60 V, 8-Pin SOP (MS8-8), Industrial, Pb-Free; Linear Technology Part Number: LT1787HV; Manufacturer: Linear Technology; PartNumber: LT1787HVIMS8#PBF; Channels (#): 1; GBW (MHz) Typical: 0.115; Is (mA) Typical: 0.06; Vos (mV) Guaranteed: 0.075; Vos (mV) Typical: 0.04; Vs Max (V): 60; Vs Min (V): 2.5; DatasheetVersion: Rev. C; PackageVersion: Rev G; PackageReference: LT-MS8-8; PackageDescription: 8-Lead Plastic Small Outline, Body 3.9 x 4.9 mm, Pitch 1.27 mm; Supplier 1: Digi-Key; Supplier Part Number 1: LT1787HVIMS8#PBF-ND; Supplier 2: Newark; Supplier Part Number 2: 57M6455; RoHS: Pb-Free; Type: CSA; Mounting Technology: Surface Mount; ComponentLink1Description: Manufacturer URL; ComponentLink1URL: http://www.linear.com/; ComponentLink2Description: Datasheet; ComponentLink2URL: http://cds.linear.com/docs/en/datasheet/1787fc.pdf; ComponentLink3Description: Package Specification; ComponentLink3URL: http://cds.linear.com/docs/en/packaging/05081610_G_SO8.pdf
footprint LT-MS8-8_N (SOP, 8-Leads, Body 3x3mm, Pitch 0.65mm, IPC Medium Density)
footprint LT-MS8-8_L (SOP, 8-Leads, Body 3x3mm, Pitch 0.65mm, IPC High Density)
footprint LT-MS8-8_M (SOP, 8-Leads, Body 3x3mm, Pitch 0.65mm, IPC Low Density)
pins: 1 FIL- "Negative and Positive Filter Terminals. Differential mode noise can be filtered by connecting a capacitor across FIL- and FIL+. Pole frequency f_3dB = 1/(2pRC), R = 1.25k ohm.", 2 VS- (in) "Negative Input Sense Terminal. Negative sense voltage will result in an output sinking current proportional to the sense current. VS- is connected to an internal gain-setting resistor RG1A and supplies bias current to the (See Datasheet)", 3 DNC "Do Not Connect. Connected internally. Do not connect external circuitry to this pin.", 4 VEE (power) "Negative Supply or Ground for Single Supply Operation.", 5 VOUT (out) "Voltage Output or Current Output proportional to the magnitude of the sense current flowing through RSENSE. For bidirectional current sensing operation, VOUT = AV * VSENSE + VOUT(O) + VBIAS,where: VOUT > VBIAS for VS + > VS- (See Datasheet)", 6 VBIAS "Output Bias Pin. For single supply, bidirectional current sensing operation, VBIAS is connected to an external bias voltage, so that at VSENSE = 0V, VOUT = VOUT(O) + VBIAS. For dual supply, bidirectional current sensing (See Datasheet)", 7 VS+ (in) "Positive Input Sense Terminal. Positive sense voltage will result in an output sourcing current proportional to the sense current. VS + is connected to an internal gain-setting resistor RG2A. Connecting a supply to VS + and (See Datasheet)", 8 FIL+ "Negative and Positive Filter Terminals. Differential mode noise can be filtered by connecting a capacitor across FIL- and FIL+. Pole frequency f_3dB = 1/(2pRC), R = 1.25k ohm."

## LT1787HVIMS8#TR
designator U?
Single Channel, High Side Current Sense, 60 V Supply Operation, Precision Operational Amplifier, 0.115 MHz Typical GBW, 2.5 to 60 V, 8-Pin SOP (MS8-8), Industrial, Reel; Linear Technology Part Number: LT1787HV; Manufacturer: Linear Technology; PartNumber: LT1787HVIMS8#TR; Channels (#): 1; GBW (MHz) Typical: 0.115; Is (mA) Typical: 0.06; Vos (mV) Guaranteed: 0.075; Vos (mV) Typical: 0.04; Vs Max (V): 60; Vs Min (V): 2.5; DatasheetVersion: Rev. C; PackageVersion: Rev G; PackageReference: LT-MS8-8; PackageDescription: 8-Lead Plastic Small Outline, Body 3.9 x 4.9 mm, Pitch 1.27 mm; Supplier 1: Digi-Key; Supplier Part Number 1: LT1787HVIMS8#TR-ND; Packing: Reel; Type: CSA; Mounting Technology: Surface Mount; ComponentLink1Description: Manufacturer URL; ComponentLink1URL: http://www.linear.com/; ComponentLink2Description: Datasheet; ComponentLink2URL: http://cds.linear.com/docs/en/datasheet/1787fc.pdf; ComponentLink3Description: Package Specification; ComponentLink3URL: http://cds.linear.com/docs/en/packaging/05081610_G_SO8.pdf
footprint LT-MS8-8_N (SOP, 8-Leads, Body 3x3mm, Pitch 0.65mm, IPC Medium Density)
footprint LT-MS8-8_L (SOP, 8-Leads, Body 3x3mm, Pitch 0.65mm, IPC High Density)
footprint LT-MS8-8_M (SOP, 8-Leads, Body 3x3mm, Pitch 0.65mm, IPC Low Density)
pins: 1 FIL- "Negative and Positive Filter Terminals. Differential mode noise can be filtered by connecting a capacitor across FIL- and FIL+. Pole frequency f_3dB = 1/(2pRC), R = 1.25k ohm.", 2 VS- (in) "Negative Input Sense Terminal. Negative sense voltage will result in an output sinking current proportional to the sense current. VS- is connected to an internal gain-setting resistor RG1A and supplies bias current to the (See Datasheet)", 3 DNC "Do Not Connect. Connected internally. Do not connect external circuitry to this pin.", 4 VEE (power) "Negative Supply or Ground for Single Supply Operation.", 5 VOUT (out) "Voltage Output or Current Output proportional to the magnitude of the sense current flowing through RSENSE. For bidirectional current sensing operation, VOUT = AV * VSENSE + VOUT(O) + VBIAS,where: VOUT > VBIAS for VS + > VS- (See Datasheet)", 6 VBIAS "Output Bias Pin. For single supply, bidirectional current sensing operation, VBIAS is connected to an external bias voltage, so that at VSENSE = 0V, VOUT = VOUT(O) + VBIAS. For dual supply, bidirectional current sensing (See Datasheet)", 7 VS+ (in) "Positive Input Sense Terminal. Positive sense voltage will result in an output sourcing current proportional to the sense current. VS + is connected to an internal gain-setting resistor RG2A. Connecting a supply to VS + and (See Datasheet)", 8 FIL+ "Negative and Positive Filter Terminals. Differential mode noise can be filtered by connecting a capacitor across FIL- and FIL+. Pole frequency f_3dB = 1/(2pRC), R = 1.25k ohm."

## LT1787HVIMS8#TRPBF
designator U?
Single Channel, High Side Current Sense, 60 V Supply Operation, Precision Operational Amplifier, 0.115 MHz Typical GBW, 2.5 to 60 V, 8-Pin SOP (MS8-8), Industrial, Pb-Free, Reel; Linear Technology Part Number: LT1787HV; Manufacturer: Linear Technology; PartNumber: LT1787HVIMS8#TRPBF; Channels (#): 1; GBW (MHz) Typical: 0.115; Is (mA) Typical: 0.06; Vos (mV) Guaranteed: 0.075; Vos (mV) Typical: 0.04; Vs Max (V): 60; Vs Min (V): 2.5; DatasheetVersion: Rev. C; PackageVersion: Rev G; PackageReference: LT-MS8-8; PackageDescription: 8-Lead Plastic Small Outline, Body 3.9 x 4.9 mm, Pitch 1.27 mm; Supplier 1: Digi-Key; Supplier Part Number 1: LT1787HVIMS8#TRPBF-ND; Packing: Reel; RoHS: Pb-Free; Type: CSA; Mounting Technology: Surface Mount; ComponentLink1Description: Manufacturer URL; ComponentLink1URL: http://www.linear.com/; ComponentLink2Description: Datasheet; ComponentLink2URL: http://cds.linear.com/docs/en/datasheet/1787fc.pdf; ComponentLink3Description: Package Specification; ComponentLink3URL: http://cds.linear.com/docs/en/packaging/05081610_G_SO8.pdf
footprint LT-MS8-8_N (SOP, 8-Leads, Body 3x3mm, Pitch 0.65mm, IPC Medium Density)
footprint LT-MS8-8_L (SOP, 8-Leads, Body 3x3mm, Pitch 0.65mm, IPC High Density)
footprint LT-MS8-8_M (SOP, 8-Leads, Body 3x3mm, Pitch 0.65mm, IPC Low Density)
pins: 1 FIL- "Negative and Positive Filter Terminals. Differential mode noise can be filtered by connecting a capacitor across FIL- and FIL+. Pole frequency f_3dB = 1/(2pRC), R = 1.25k ohm.", 2 VS- (in) "Negative Input Sense Terminal. Negative sense voltage will result in an output sinking current proportional to the sense current. VS- is connected to an internal gain-setting resistor RG1A and supplies bias current to the (See Datasheet)", 3 DNC "Do Not Connect. Connected internally. Do not connect external circuitry to this pin.", 4 VEE (power) "Negative Supply or Ground for Single Supply Operation.", 5 VOUT (out) "Voltage Output or Current Output proportional to the magnitude of the sense current flowing through RSENSE. For bidirectional current sensing operation, VOUT = AV * VSENSE + VOUT(O) + VBIAS,where: VOUT > VBIAS for VS + > VS- (See Datasheet)", 6 VBIAS "Output Bias Pin. For single supply, bidirectional current sensing operation, VBIAS is connected to an external bias voltage, so that at VSENSE = 0V, VOUT = VOUT(O) + VBIAS. For dual supply, bidirectional current sensing (See Datasheet)", 7 VS+ (in) "Positive Input Sense Terminal. Positive sense voltage will result in an output sourcing current proportional to the sense current. VS + is connected to an internal gain-setting resistor RG2A. Connecting a supply to VS + and (See Datasheet)", 8 FIL+ "Negative and Positive Filter Terminals. Differential mode noise can be filtered by connecting a capacitor across FIL- and FIL+. Pole frequency f_3dB = 1/(2pRC), R = 1.25k ohm."

## LT1787HVIS8
designator U?
Single Channel, High Side Current Sense, 60 V Supply Operation, Precision Operational Amplifier, 0.115 MHz Typical GBW, 2.5 to 60 V, 8-Pin SOIC (S8-8), Industrial; Linear Technology Part Number: LT1787HV; Manufacturer: Linear Technology; PartNumber: LT1787HVIS8; Channels (#): 1; GBW (MHz) Typical: 0.115; Is (mA) Typical: 0.06; Vos (mV) Guaranteed: 0.075; Vos (mV) Typical: 0.04; Vs Max (V): 60; Vs Min (V): 2.5; DatasheetVersion: Rev. C; PackageVersion: Rev G; PackageReference: LT-S8-8; PackageDescription: 8-Pin Plastic Small Outline, Body 4.9 x 3.9 mm, Pitch 1.27 mm; Supplier 1: Digi-Key; Supplier Part Number 1: LT1787HVIS8-ND; Supplier 2: Newark; Supplier Part Number 2: 57M6458; Type: CSA; Mounting Technology: Surface Mount; ComponentLink1Description: Manufacturer URL; ComponentLink1URL: http://www.linear.com/; ComponentLink2Description: Datasheet; ComponentLink2URL: http://cds.linear.com/docs/en/datasheet/1787fc.pdf; ComponentLink3Description: Package Specification; ComponentLink3URL: http://cds.linear.com/docs/en/packaging/05081610_G_SO8.pdf
footprint LT-S8-8_N (SOIC, 8-Leads, Body 4.9x3.9mm, Pitch 1.27mm, IPC Medium Density)
footprint LT-S8-8_L (SOIC, 8-Leads, Body 4.9x3.9mm, Pitch 1.27mm, IPC High Density)
footprint LT-S8-8_M (SOIC, 8-Leads, Body 4.9x3.9mm, Pitch 1.27mm, IPC Low Density)
pins: 1 FIL- "Negative and Positive Filter Terminal. Differential mode noise can be filtered by connecting a capacitor across FIL- and FIL+. Pole frequency f-3dB = 1/(2pRC), R = 1.25k ohm.", 2 VS- (in) "Negative Input Sense Terminal. Negative sense voltage will result in an output sinking current proportional to the sense current. VS- is connected to an internal gain-setting resistor RG1A and supplies bias current to the (See Datasheet)", 3 DNC "Do Not Connect. Connected internally. Do not connect external circuitry to this pin.", 4 VEE (power) "Negative Supply or Ground for Single Supply Operation.", 5 VOUT (out) "Voltage Output or Current Output proportional to the magnitude of the sense current flowing through RSENSE. For bidirectional current sensing operation, VOUT = AV • VSENSE + VOUT(O) + VBIAS,where: VOUT > VBIAS for VS + > VS (See Datasheet)", 6 VBIAS "Output Bias Pin. For single supply, bidirectional current sensing operation, VBIAS is connected to an external bias voltage, so that at VSENSE = 0V, VOUT = VOUT(O) + VBIAS. For dual supply, bidirectional current sensing (See Datasheet)", 7 VS+ (in) "Positive Input Sense Terminal. Positive sense voltage will result in an output sourcing current proportional to the sense current. VS + is connected to an internal gain-setting resistor RG2A. Connecting a supply to VS + and (See Datasheet)", 8 FIL+ "Negative and Positive Filter Terminal. Differential mode noise can be filtered by connecting a capacitor across FIL- and FIL+. Pole frequency f-3dB = 1/(2pRC), R = 1.25k ohm."